# Altium schematic symbol library ProjectLib.SchLib: 1 symbol
Pins are listed as number, name and electrical type; pins without a type are passive.

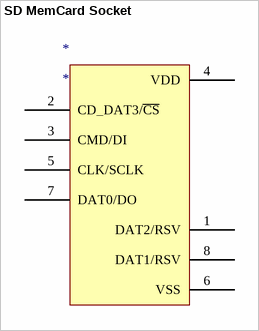
[diagram p0: symbol SD MemCard Socket]

## SD MemCard Socket
designator *
pins: 1 DAT2/RSV, 2 CD_DAT3/~{CS}, 3 CMD/DI, 4 VDD, 5 CLK/SCLK, 6 VSS, 7 DAT0/DO, 8 DAT1/RSV